# Altium footprint library PcbLib1.PcbLib: 23 footprints (part 1 of 2)
Each footprint in its own frame and in the unit in brackets; x right, y up, seen from the top. Pads: shape width x height; smd on the part's side, far side on the other; paste and mask are expansions set on the pad; w line width, h text height; cw(c..) or ccw(c..) is an arc to the next point about the centre after c.
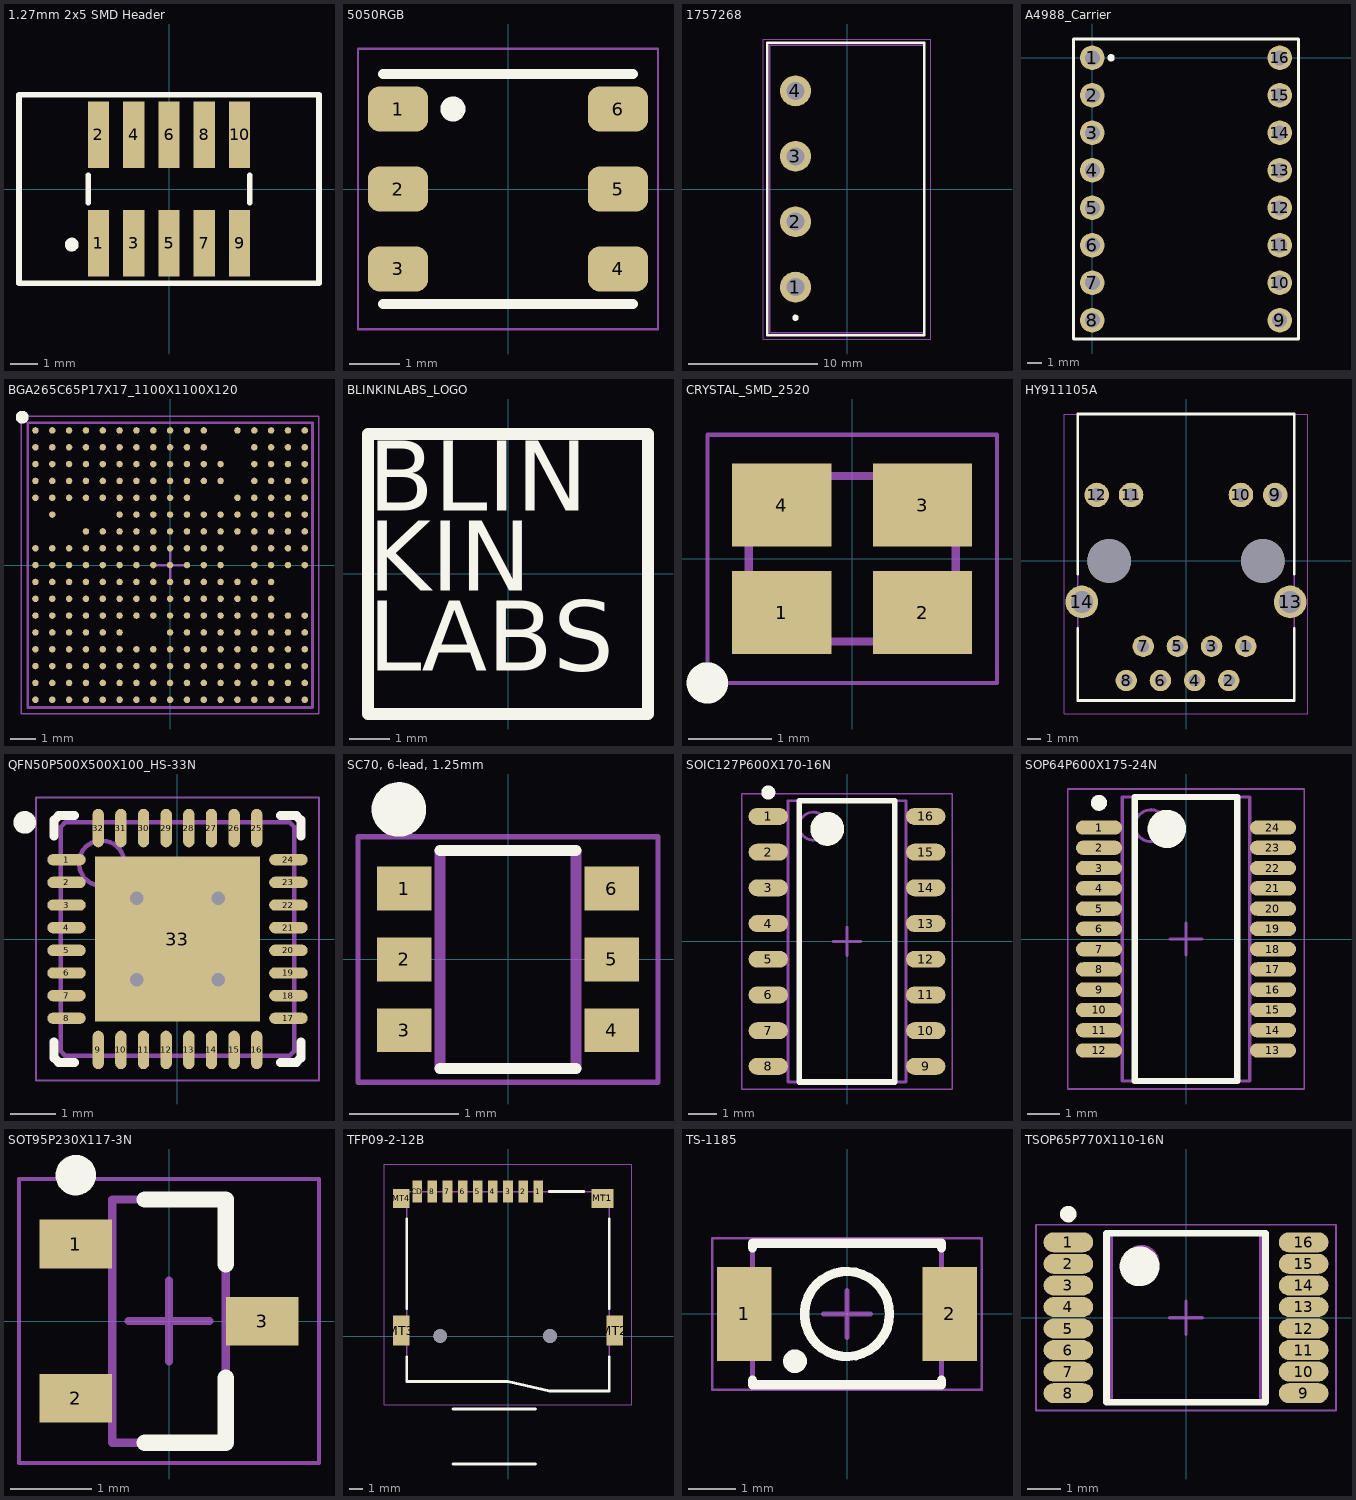
[diagram p0: the footprints below, top view; thin cyan lines are the x and y axes]

## 1.27mm 2x5 SMD Header [mm]
pads (10):
  rect 0.76x2.4 smd: 1(-2.54,-1.95) 2(-2.54,1.95) 3(-1.27,-1.95) 4(-1.27,1.95) 5(0,-1.95) 6(0,1.95) 7(1.27,-1.95) 8(1.27,1.95) 9(2.54,-1.95) 10(2.54,1.95)
Top Overlay:
  circle w0.25: c-3.5,-2 r0.125
  lines w0.2: -2.9,-0.5 -2.9,0.5 ; 2.9,-0.5 2.9,0.5 ; -5.4,-3.4 -5.4,3.4 5.4,3.4 5.4,-3.4 -5.4,-3.4
Mechanical 15:
  lines w0.05: -5.4,-3.4 5.4,-3.4 5.4,3.4 -5.4,3.4 -5.4,-3.4

## 5050RGB [mm]
pads (6):
  rrect50% 1.2x0.9 smd: 1(-2.2,1.6) 2(-2.2,0) 3(-2.2,-1.6) 4(2.2,-1.6) 5(2.2,0) 6(2.2,1.6)
Top Overlay:
  circle w0.25: c-1.1,1.6 r0.125
  lines w0.2: -2.5,-2.3 2.5,-2.3 ; -2.5,2.3 2.5,2.3
Mechanical 15:
  lines w0.05: -3,-2.8 -3,2.8 3,2.8 3,-2.8 -3,-2.8
3D body "5050 LED package.step": height 1.6, standoff 0, extent -2.7,-2.5 2.7,2.5

## 1757268 [mm] "TERM BLOCK HDR 4POS 90DEG 5.08MM"
pads (4):
  round 2.4 hole 1.4: 1(-4,-7.62) 2(-4,-2.54) 3(-4,2.54) 4(-4,7.62)
Top Overlay:
  circle w0.25: c-4,-10 r0.125
  lines w0.2: -6.2,-11.35 6,-11.35 6,11.35 -6.2,11.35 -6.2,-11.35
Mechanical 13:
  lines w0.1: -6,-11.15 6,-11.15 6,11.15 -6,11.15 -6,-11.15
Mechanical 15:
  lines w0.05: -6.5,-11.65 6.5,-11.65 6.5,11.65 -6.5,11.65 -6.5,-11.65
3D body "1757268_06.stp": height 8.6, standoff -3.5, extent -6,-11.16 6.002,11.16

## A4988_Carrier [mil] "A4988 Stepper Motor Driver Carrier"
pads (16):
  round 65 hole 40: 1(0,0) 2(0,-100) 3(0,-200) 4(0,-300) 5(0,-400) 6(0,-500) 7(0,-600) 8(0,-700) 9(500,-700) 10(500,-600) 11(500,-500) 12(500,-400) 13(500,-300) 14(500,-200) 15(500,-100) 16(500,0)
Top Overlay:
  circle w9.84: c50,0 r4.92
  lines w7.87: -50,-750 550,-750 550,50 -50,50 -50,-750
Mechanical 13:
  lines w3.94: -50,-750 550,-750 550,50 -50,50 -50,-750
Mechanical 15:
  lines w1.97: -50,-750 550,-750 550,50 -50,50 -50,-750

## BGA265C65P17X17_1100X1100X120 [mm] "BGA, 265-Leads, Body 11.00x11.00mmx1.20mm, Pitch 0.65mm"
height 1.2
pads (267):
  round 0.25 smd: A1(-5.2,5.2) A2(-4.55,5.2) A3(-3.9,5.2) A4(-3.25,5.2) A5(-2.6,5.2) A6(-1.95,5.2) A7(-1.3,5.2) A8(-0.65,5.2) A9(0,5.2) A10(0.65,5.2) A11(1.3,5.2) A13(2.6,5.2) A14(3.25,5.2) A15(3.9,5.2) A16(4.55,5.2) A17(5.2,5.2) B1(-5.2,4.55) B2(-4.55,4.55) B3(-3.9,4.55) B4(-3.25,4.55) B5(-2.6,4.55) B6(-1.95,4.55) B7(-1.3,4.55) B8(-0.65,4.55) B9(0,4.55) B10(0.65,4.55) B11(1.3,4.55) B14(3.25,4.55) B15(3.9,4.55) B16(4.55,4.55) B17(5.2,4.55) C1(-5.2,3.9) C2(-4.55,3.9) C3(-3.9,3.9) C4(-3.25,3.9) C5(-2.6,3.9) C6(-1.95,3.9) C7(-1.3,3.9) C8(-0.65,3.9) C9(0,3.9) C10(0.65,3.9) C11(1.3,3.9) C12(1.95,3.9) C14(3.25,3.9) C15(3.9,3.9) C16(4.55,3.9) C17(5.2,3.9) D1(-5.2,3.25) D2(-4.55,3.25) D3(-3.9,3.25) D4(-3.25,3.25) D5(-2.6,3.25) D6(-1.95,3.25) D7(-1.3,3.25) D8(-0.65,3.25) D9(0,3.25) D10(0.65,3.25) D11(1.3,3.25) D12(1.95,3.25) D14(3.25,3.25) D15(3.9,3.25) D16(4.55,3.25) D17(5.2,3.25) E1(-5.2,2.6) E2(-4.55,2.6) E3(-3.9,2.6) E4(-3.25,2.6) E5(-2.6,2.6) E6(-1.95,2.6) E7(-1.3,2.6) E8(-0.65,2.6) E9(0,2.6) E10(0.65,2.6) E13(2.6,2.6) E14(3.25,2.6) E15(3.9,2.6) E16(4.55,2.6) E17(5.2,2.6) F2(-4.55,1.95) F6(-1.95,1.95) F7(-1.3,1.95) F8(-0.65,1.95) F9(0,1.95) F10(0.65,1.95) F11(1.3,1.95) F12(1.95,1.95) F13(2.6,1.95) F14(3.25,1.95) F15(3.9,1.95) F16(4.55,1.95) F17(5.2,1.95) G4(-3.25,1.3) G5(-2.6,1.3) G6(-1.95,1.3) G7(-1.3,1.3) G8(-0.65,1.3) G9(0,1.3) G10(0.65,1.3) G11(1.3,1.3) G12(1.95,1.3) G13(2.6,1.3) G14(3.25,1.3) G15(3.9,1.3) G16(4.55,1.3) G17(5.2,1.3) H1(-5.2,0.65) H2(-4.55,0.65) H3(-3.9,0.65) H4(-3.25,0.65) H5(-2.6,0.65) H6(-1.95,0.65) H7(-1.3,0.65) H8(-0.65,0.65) H9(0,0.65) H10(0.65,0.65) H11(1.3,0.65) H12(1.95,0.65) H14(3.25,0.65) H15(3.9,0.65) H16(4.55,0.65) H17(5.2,0.65) J1(-5.2,0) J2(-4.55,0) J3(-3.9,0) J4(-3.25,0) J5(-2.6,0) J6(-1.95,0) J7(-1.3,0) J8(-0.65,0) J9(0,0) J10(0.65,0) J11(1.3,0) J12(1.95,0) J14(3.25,0) J15(3.9,0) J16(4.55,0) J17(5.2,0) K1(-5.2,-0.65) K2(-4.55,-0.65) K3(-3.9,-0.65) K4(-3.25,-0.65) K5(-2.6,-0.65) K6(-1.95,-0.65) K7(-1.3,-0.65) K8(-0.65,-0.65) K9(0,-0.65) K10(0.65,-0.65) K11(1.3,-0.65) K12(1.95,-0.65) K13(2.6,-0.65) K14(3.25,-0.65) K15(3.9,-0.65) L1(-5.2,-1.3) L2(-4.55,-1.3) L3(-3.9,-1.3) L4(-3.25,-1.3) L5(-2.6,-1.3) L6(-1.95,-1.3) L7(-1.3,-1.3) L8(-0.65,-1.3) L9(0,-1.3) L10(0.65,-1.3) L11(1.3,-1.3) L12(1.95,-1.3) L13(2.6,-1.3) L14(3.25,-1.3) L15(3.9,-1.3) M1(-5.2,-1.95) M2(-4.55,-1.95) M3(-3.9,-1.95) M4(-3.25,-1.95) M5(-2.6,-1.95) M6(-1.95,-1.95) M7(-1.3,-1.95) M8(-0.65,-1.95) M9(0,-1.95) M10(0.65,-1.95) M11(1.3,-1.95) M12(1.95,-1.95) M13(2.6,-1.95) M14(3.25,-1.95) M15(3.9,-1.95) M16(4.55,-1.95) M17(5.2,-1.95) N1(-5.2,-2.6) N2(-4.55,-2.6) N3(-3.9,-2.6) N4(-3.25,-2.6) N5(-2.6,-2.6) N6(-1.95,-2.6) N9(0,-2.6) N10(0.65,-2.6) N11(1.3,-2.6) N12(1.95,-2.6) N13(2.6,-2.6) N14(3.25,-2.6) N15(3.9,-2.6) N16(4.55,-2.6) N17(5.2,-2.6) P1(-5.2,-3.25) P2(-4.55,-3.25) P3(-3.9,-3.25) P4(-3.25,-3.25) P5(-2.6,-3.25) P6(-1.95,-3.25) P7(-1.3,-3.25) P8(-0.65,-3.25) P9(0,-3.25) P10(0.65,-3.25) P11(1.3,-3.25) P12(1.95,-3.25) P13(2.6,-3.25) P14(3.25,-3.25) P15(3.9,-3.25) P16(4.55,-3.25) P17(5.2,-3.25) R1(-5.2,-3.9) R2(-4.55,-3.9) R3(-3.9,-3.9) R4(-3.25,-3.9) R5(-2.6,-3.9) R6(-1.95,-3.9) R7(-1.3,-3.9) R8(-0.65,-3.9) R9(0,-3.9) R10(0.65,-3.9) R11(1.3,-3.9) R12(1.95,-3.9) R13(2.6,-3.9) R14(3.25,-3.9) R15(3.9,-3.9) R16(4.55,-3.9) R17(5.2,-3.9) T1(-5.2,-4.55) T2(-4.55,-4.55) T3(-3.9,-4.55) T4(-3.25,-4.55) T5(-2.6,-4.55) T6(-1.95,-4.55) T7(-1.3,-4.55) T8(-0.65,-4.55) T9(0,-4.55) T10(0.65,-4.55) T11(1.3,-4.55) T12(1.95,-4.55) T13(2.6,-4.55) T14(3.25,-4.55) T15(3.9,-4.55) T16(4.55,-4.55) T17(5.2,-4.55) U1(-5.2,-5.2) U2(-4.55,-5.2) U3(-3.9,-5.2) U4(-3.25,-5.2) U5(-2.6,-5.2) U6(-1.95,-5.2) U7(-1.3,-5.2) U8(-0.65,-5.2) U9(0,-5.2) U10(0.65,-5.2) U11(1.3,-5.2) U12(1.95,-5.2) U13(2.6,-5.2) U14(3.25,-5.2) U15(3.9,-5.2) U16(4.55,-5.2) U17(5.2,-5.2)
Top Overlay:
  circle w0.25: c-5.71,5.71 r0.125
Mechanical 13:
  lines w0.1: -5.5,-5.5 -5.5,5.5 5.5,5.5 5.5,-5.5 -5.5,-5.5
Mechanical 15:
  lines w0.05: -5.75,-5.75 -5.75,5.75 5.75,5.75 5.75,-5.75 -5.75,-5.75
  lines w0.1: -0.5,0 0.5,0 ; 0,-0.5 0,0.5
3D body "BGA265C65P17X17_1100X1100X120.step": height 1.2, standoff 0, extent -5.5,-5.5 5.5,5.5

## BLINKINLABS_LOGO [mm] "Square blinkinlabs logo"
Top Overlay:
  lines w0.3: -3.511,-3.511 3.5,-3.511 3.5,3.5 -3.511,3.5 -3.511,-3.511
  text "BLIN" at -3.5,1 h3
  text "KIN" at -3.5,-1 h3
  text "LABS" at -3.5,-3 h3

## CRYSTAL_SMD_2520 [mm] "Hand Drawn, 4-Leads, Body 2.5x2.0 mm"
pads (4):
  rect 1.2x1 smd: 1(-0.85,-0.65) 2(0.85,-0.65) 3(0.85,0.65) 4(-0.85,0.65)
Top Overlay:
  circle w0.25: c-1.75,-1.5 r0.125
Mechanical 13:
  lines w0.1: -1.25,-1 1.25,-1 1.25,-0.5 1.25,1 -1.25,1 -1.25,-0.5 -1.25,-1
Mechanical 15:
  lines w0.05: -1.75,-1.5 -1.75,1.5 1.75,1.5 1.75,-1.5 -1.75,-1.5
3D body: height 0.4, standoff 0.1, extent -1.25,-1 1.25,1

## HY911105A [mm] "Single Port RJ45 Connector with Integrated Magnetics and LED for 10/100Base-T NIC Applications"
height 13.5
pads (16):
  round 1.59 hole 0.89: 1(4.44,-6.35) 2(3.18,-8.89) 3(1.9,-6.35) 4(0.64,-8.89) 5(-0.64,-6.35) 6(-1.9,-8.89) 7(-3.18,-6.35) 8(-4.44,-8.89)
  round 1.82 hole 1.02: 9(6.625,4.9) 10(4.085,4.9) 11(-4.085,4.9) 12(-6.625,4.9)
  round 2.43 hole 1.63: 13(7.745,-3.05) 14(-7.745,-3.05)
  round 3.25 hole 3.25 unplated: ""(-5.715,0) ""(5.715,0)
Top Overlay:
  lines w0.2: -8.05,-5 -8.05,-10.38 8.05,-10.38 8.05,-5 ; -8.05,-1 -8.05,10.92 8.05,10.92 8.05,-1
Mechanical 13:
  lines w0.1: -8.05,-10.38 8.05,-10.38 8.05,10.92 -8.05,10.92 -8.05,-10.38
Mechanical 15:
  lines w0.05: -9.05,-11.38 9.05,-11.38 9.05,10.92 -9.05,10.92 -9.05,-11.38
3D body: height 13.5, standoff 0.1, extent -8.05,-10.38 8.05,10.92

## QFN50P500X500X100_HS-33N [mm] "QFN, 32-Leads, Body 5.00x5.00mm, Pitch 0.50mm, Thermal Pad 3.65x3.65mm, IPC Medium Density"
height 1
pads (33):
  oval 0.85x0.25 smd: 1(-2.45,1.75) 2(-2.45,1.25) 3(-2.45,0.75) 4(-2.45,0.25) 5(-2.45,-0.25) 6(-2.45,-0.75) 7(-2.45,-1.25) 8(-2.45,-1.75) 17(2.45,-1.75) 18(2.45,-1.25) 19(2.45,-0.75) 20(2.45,-0.25) 21(2.45,0.25) 22(2.45,0.75) 23(2.45,1.25) 24(2.45,1.75)
  oval 0.25x0.85 smd: 9(-1.75,-2.45) 10(-1.25,-2.45) 11(-0.75,-2.45) 12(-0.25,-2.45) 13(0.25,-2.45) 14(0.75,-2.45) 15(1.25,-2.45) 16(1.75,-2.45) 25(1.75,2.45) 26(1.25,2.45) 27(0.75,2.45) 28(0.25,2.45) 29(-0.25,2.45) 30(-0.75,2.45) 31(-1.25,2.45) 32(-1.75,2.45)
  rect 3.65x3.65 smd: 33(0,0)
via -0.9,0.9 diameter 0.5 hole 0.3
via 0.9,0.9 diameter 0.5 hole 0.3
via 0.9,-0.9 diameter 0.5 hole 0.3
via -0.9,-0.9 diameter 0.5 hole 0.3
Top Overlay:
  circle w0.25: c-3.375,2.575 r0.125
  lines w0.2: -2.725,-2.275 -2.725,-2.625 -2.625,-2.725 -2.275,-2.725 ; -2.725,2.275 -2.725,2.625 -2.625,2.725 -2.275,2.725 ; 2.275,-2.725 2.625,-2.725 2.725,-2.625 2.725,-2.275 ; 2.275,2.725 2.625,2.725 2.725,2.625 2.725,2.275
Mechanical 13:
  circle w0.1: c-1.675,1.675 r0.5
  lines w0.1: -2.575,-2.475 -2.475,-2.575 2.475,-2.575 2.575,-2.475 2.575,2.475 2.475,2.575 -2.475,2.575 -2.575,2.475 -2.575,-2.475
Mechanical 15:
  lines w0.05: -3.125,-3.125 -3.125,3.125 3.125,3.125 3.125,-3.125 -3.125,-3.125
  lines w0.1: -0.5,0 0.5,0 ; 0,-0.5 0,0.5
3D body "QFN50P500X500X100_HS-33N.step": height 1, standoff 0, extent -2.625,-2.625 2.625,2.625

## SC70, 6-lead, 1.25mm [mm]
pads (6):
  rect 0.5x0.4 smd: 1(-0.95,0.65) 2(-0.95,0) 3(-0.95,-0.65) 4(0.95,-0.65) 5(0.95,0) 6(0.95,0.65)
Top Overlay:
  circle w0.25: c-1,1.375 r0.125
  lines w0.1: -0.625,-1 0.625,-1 ; -0.625,1 0.625,1
Mechanical 13:
  lines w0.1: -0.625,-1 0.625,-1 0.625,1 -0.625,1 -0.625,-1
Mechanical 15:
  lines w0.05: -1.375,-1.125 -1.375,1.125 1.375,1.125 1.375,-1.125 -1.375,-1.125
3D body: height 1.1, standoff 0.1, extent -0.625,-1 0.625,1

## SOIC127P600X170-16N [mm] "SOIC, 16-Leads, Body 9.13x3.95mm, Pitch 1.27mm, IPC Medium Density"
height 1.7
pads (16):
  oval 1.4x0.6 smd: 1(-2.8,4.445) 2(-2.8,3.175) 3(-2.8,1.905) 4(-2.8,0.635) 5(-2.8,-0.635) 6(-2.8,-1.905) 7(-2.8,-3.175) 8(-2.8,-4.445) 9(2.8,-4.445) 10(2.8,-3.175) 11(2.8,-1.905) 12(2.8,-0.635) 13(2.8,0.635) 14(2.8,1.905) 15(2.8,3.175) 16(2.8,4.445)
Top Overlay:
  circle w0.25: c-2.8,5.295 r0.125
  circle w0.6: c-0.7,4 r0.3
  lines w0.2: -1.7,-5 -1.7,5 1.7,5 1.7,-5 -1.7,-5
Mechanical 13:
  circle w0.1: c-1.2,4.1 r0.5
  lines w0.1: -2.1,-5 -2.1,5 2.1,5 2.1,-5 -2.1,-5
Mechanical 15:
  lines w0.05: -3.75,-5.25 -3.75,5.25 3.75,5.25 3.75,-5.25 -3.75,-5.25
  lines w0.1: -0.5,0 0.5,0 ; 0,-0.5 0,0.5
3D body "SOIC127P600X170-16N.step": height 1.7, standoff 0, extent -3,-5 3,5

## SOP64P600X175-24N [mm] "SOP, 24-Leads, Body 8.65x3.90mm, Pitch 0.64mm, IPC Medium Density"
height 1.75
pads (24):
  oval 1.45x0.45 smd: 1(-2.725,3.492) 2(-2.725,2.857) 3(-2.725,2.222) 4(-2.725,1.587) 5(-2.725,0.953) 6(-2.725,0.318) 7(-2.725,-0.318) 8(-2.725,-0.953) 9(-2.725,-1.587) 10(-2.725,-2.222) 11(-2.725,-2.857) 12(-2.725,-3.492) 13(2.725,-3.492) 14(2.725,-2.857) 15(2.725,-2.222) 16(2.725,-1.587) 17(2.725,-0.953) 18(2.725,-0.318) 19(2.725,0.318) 20(2.725,0.953) 21(2.725,1.587) 22(2.725,2.222) 23(2.725,2.857) 24(2.725,3.492)
Top Overlay:
  circle w0.6: c-0.6,3.45 r0.3
  circle w0.25: c-2.725,4.267 r0.125
  lines w0.2: -1.6,-4.45 1.6,-4.45 1.6,4.45 -1.6,4.45 -1.6,-4.45
Mechanical 13:
  circle w0.1: c-1.1,3.55 r0.5
  lines w0.1: -2,-4.45 2,-4.45 2,4.45 -2,4.45 -2,-4.45
Mechanical 15:
  lines w0.05: -3.7,-4.7 3.7,-4.7 3.7,4.7 -3.7,4.7 -3.7,-4.7
  lines w0.1: -0.5,0 0.5,0 ; 0,-0.5 0,0.5
3D body "SOP64P600X175-24N.step": height 1.75, standoff 0, extent -3,-4.45 3,4.45

## SOT95P230X117-3N [mm] "SOT23, 3-Leads, Body 2.90x2.30mm, Pitch 0.95mm, IPC Medium Density"
height 1.17
pads (3):
  rect 0.9x0.6 smd: 1(-1.15,0.95) 2(-1.15,-0.95) 3(1.15,0)
Top Overlay:
  circle w0.25: c-1.15,1.8 r0.125
  lines w0.2: -0.3,-1.5 0.7,-1.5 0.7,-0.7 ; -0.3,1.5 0.7,1.5 0.7,0.7
Mechanical 13:
  lines w0.1: -0.7,-1.5 -0.7,1.5 0.7,1.5 0.7,-1.5 -0.7,-1.5
Mechanical 15:
  lines w0.05: -1.85,-1.75 -1.85,1.75 1.85,1.75 1.85,-1.75 -1.85,-1.75
  lines w0.1: -0.5,0 0.5,0 ; 0,-0.5 0,0.5
3D body "SOT95P230X117-3N.step": height 1.17, standoff 0, extent -1.245,-1.5 1.245,1.5

## TFP09-2-12B [mm] "Micro SD Card Connector"
pads (15):
  rect 0.7x1.6 smd: 1(2.2,10.5) 2(1.1,10.5) 3(0,10.5) 4(-1.1,10.5) 5(-2.2,10.5) 6(-3.3,10.5) 7(-4.4,10.5) 8(-5.5,10.5) CD(-6.6,10.5)
  round 1 hole 1 unplated: ALIGN-1(3.05,0) ALIGN-2(-4.93,0)
  rect 1.6x1.4 smd: MT1(6.85,10)
  rect 1.2x2.2 smd: MT2(7.75,0.4) MT3(-7.75,0.4)
  rect 1.2x1.4 smd: MT4(-7.75,10)
Top Overlay:
  lines w0.2: -7.35,-1.5 -7.35,-3.3 0,-3.3 3,-4 7.35,-4 7.35,-1.5 ; -7.35,2 -7.35,8.5 ; -4,-9.3 2,-9.3 ; -4,-5.3 2,-5.3 ; 3,10.5 5.5,10.5 ; 7.35,2 7.35,8.5
Mechanical 13:
  lines w0.1: -7.35,-3.3 -7.35,10.5 7.35,10.5 7.35,-4 3,-4 0,-3.3 -7.35,-3.3
Mechanical 15:
  lines w0.05: -9,-5 9,-5 9,12.5 8.5,12.5 -9,12.5 -9,-5

## TS-1185 [mm] "3x4x2mm Tact Switch, no alignment pin"
pads (2):
  rect 1.15x2 smd: 1(-2.175,0) 2(2.175,0)
Top Overlay:
  circle w0.2: c0,0 r0.9
  circle w0.25: c-1.1,-1 r0.125
  lines w0.2: -2,-1.4 -2,-1.5 2,-1.5 2,-1.4 ; -2,1.4 -2,1.5 2,1.5 2,1.4
Mechanical 13:
  circle w0.1: c0,0 r0.9
  lines w0.1: -2,-1.5 2,-1.5 2,1.5 -2,1.5 -2,-1.5
Mechanical 15:
  lines w0.05: -2.85,-1.6 2.85,-1.6 2.85,1.6 -2.85,1.6 -2.85,-1.6
  lines w0.1: -0.5,0 0.5,0 ; 0,-0.5 0,0.5
3D body: height 2, standoff 0, extent -0.893,-0.898 0.9,0.898
3D body: height 1.5, standoff 0, extent -2,-1.5 2,1.5

## TSOP65P770X110-16N [mm] "TSOP, 16-Leads, Body 5.00x4.40mm, Pitch 0.65mm, IPC Medium Density"
height 1.1
pads (16):
  oval 1.5x0.6 smd: 1(-3.55,2.275) 2(-3.55,1.625) 3(-3.55,0.975) 4(-3.55,0.325) 5(-3.55,-0.325) 6(-3.55,-0.975) 7(-3.55,-1.625) 8(-3.55,-2.275) 9(3.55,-2.275) 10(3.55,-1.625) 11(3.55,-0.975) 12(3.55,-0.325) 13(3.55,0.325) 14(3.55,0.975) 15(3.55,1.625) 16(3.55,2.275)
Top Overlay:
  circle w0.6: c-1.4,1.55 r0.3
  circle w0.25: c-3.55,3.125 r0.125
  lines w0.2: -2.4,-2.55 2.4,-2.55 2.4,2.55 -2.4,2.55 -2.4,-2.55
Mechanical 13:
  circle w0.1: c-1.35,1.65 r0.5
  lines w0.1: -2.25,-2.55 2.25,-2.55 2.25,2.55 -2.25,2.55 -2.25,-2.55
Mechanical 15:
  lines w0.05: -4.525,-2.8 4.525,-2.8 4.525,2.8 -4.525,2.8 -4.525,-2.8
  lines w0.1: -0.5,0 0.5,0 ; 0,-0.5 0,0.5
3D body "TSOP65P770X110-16N.step": height 1.1, standoff 0, extent -3.86,-2.55 3.86,2.55